# EAGLE library part 68713014022(OLED096) (library FaBo-Connetor)
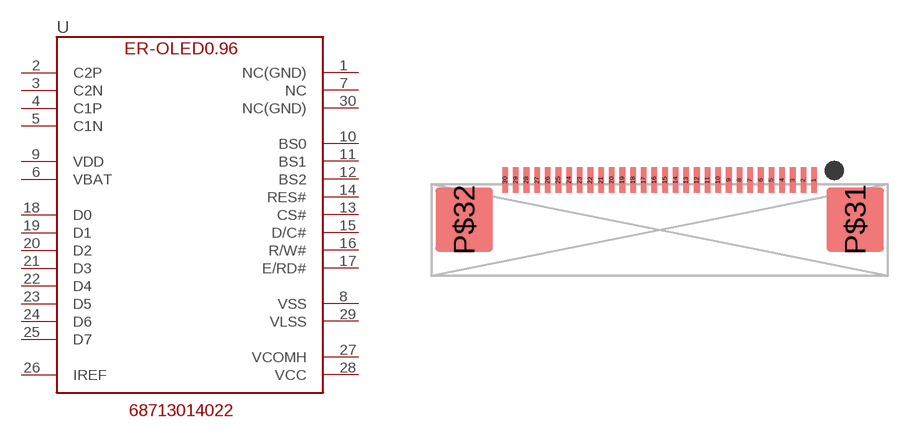
[diagram p28: symbol with the pads of 68713014022; footprint 68713014022]

Designator prefix -

## 68713014022(OLED096)  [68713014022]
1  NC(GND)  nc
2  C2P  in
3  C2N  in
4  C1P  in
5  C1N  in
6  VBAT  pwr
7  NC  nc
8  VSS  pwr
9  VDD  pwr
10  BS0  in
11  BS1  in
12  BS2  in
13  CS#  in
14  RES#  in
15  D/C#  in
16  R/W#  in
17  E/RD#  in
18  D0
19  D1
20  D2
21  D3
22  D4
23  D5
24  D6
25  D7
26  IREF  in
27  VCOMH  out
28  VCC  pwr
29  VLSS  pwr
30  NC(GND)  nc

## Footprint 68713014022 (pad centres in mm)
smd 0.3 x 1.2: 1 7.25,2.35; 2 6.75,2.35; 3 6.25,2.35; 4 5.75,2.35; 5 5.25,2.35; 6 4.75,2.35; 7 4.25,2.35; 8 3.75,2.35; 9 3.25,2.35; 10 2.75,2.35; 11 2.25,2.35; 12 1.75,2.35; 13 1.25,2.35; 14 0.75,2.35; 15 0.25,2.35; 16 -0.25,2.35; 17 -0.75,2.35; 18 -1.25,2.35; 19 -1.75,2.35; 20 -2.25,2.35; 21 -2.75,2.35; 22 -3.25,2.35; 23 -3.75,2.35; 24 -4.25,2.35; 25 -4.75,2.35; 26 -5.25,2.35; 27 -5.75,2.35; 28 -6.25,2.35; 29 -6.75,2.35; 30 -7.25,2.35
smd 2.7 x 3: P$31 9.18,0.49; P$32 -9.18,0.49